# Altium footprint library SOIC14P127_865X600X175L83X42N.PcbLib: 1 footprints
Each footprint in its own frame and in the unit in brackets; x right, y up, seen from the top. Pads: shape width x height; smd on the part's side, far side on the other; paste and mask are expansions set on the pad; w line width, h text height; cw(c..) or ccw(c..) is an arc to the next point about the centre after c.
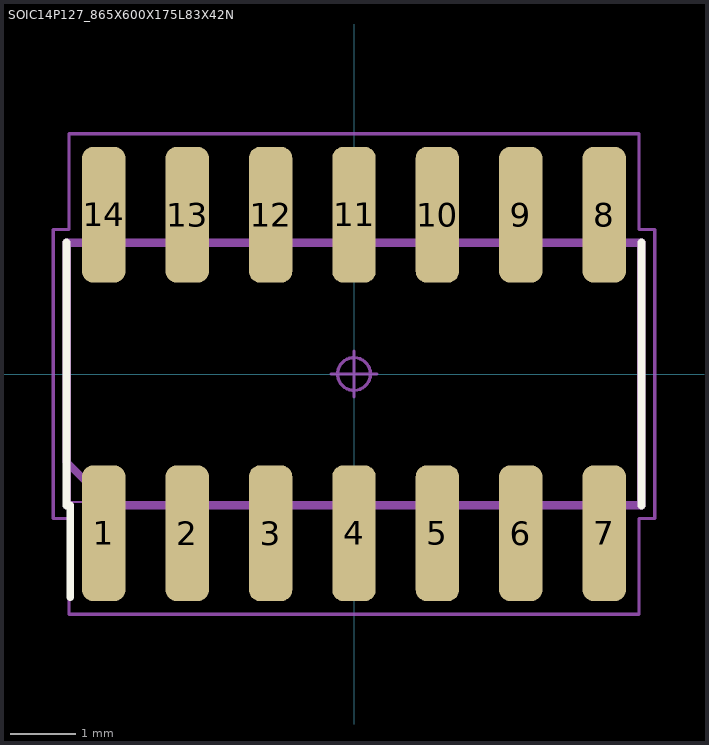
[diagram p0: the footprint, top view; thin cyan lines are the x and y axes]

## SOIC14P127_865X600X175L83X42N [mm] "Small Outline IC (SOIC), 1.27 mm pitch; 14 pin, 8.65 mm L X 3.90 mm W X 1.75 mm H body"
height 1.75
pads (14):
  rrect52% 0.66x2.07 smd: 1(-3.81,-2.425) 2(-2.54,-2.425) 3(-1.27,-2.425) 4(0,-2.425) 5(1.27,-2.425) 6(2.54,-2.425) 7(3.81,-2.425) 8(3.81,2.425) 9(2.54,2.425) 10(1.27,2.425) 11(0,2.425) 12(-1.27,2.425) 13(-2.54,2.425) 14(-3.81,2.425)
Top Overlay:
  lines w0.12: -4.38,-2 -4.38,2 ; -4.32,-3.4 -4.32,-2 ; 4.38,-2 4.38,2
Mechanical 3:
  lines w0.12: -4.38,-1.335 -3.715,-2 4.38,-2 4.38,2 -4.38,2 -4.38,-1.335
Mechanical 5:
  lines w0.025: -4.325,-1.95 -4.325,1.95 4.325,1.95 4.325,-1.95 -4.325,-1.95 ; -4.02,-3 -3.6,-3 -3.6,-2.165 -4.02,-2.165 -4.02,-3 ; -4.02,2.165 -3.6,2.165 -3.6,3 -4.02,3 -4.02,2.165 ; -2.75,-3 -2.33,-3 -2.33,-2.165 -2.75,-2.165 -2.75,-3 ; -2.75,2.165 -2.33,2.165 -2.33,3 -2.75,3 -2.75,2.165 ; -1.48,-3 -1.06,-3 -1.06,-2.165 -1.48,-2.165 -1.48,-3 ; -1.48,2.165 -1.06,2.165 -1.06,3 -1.48,3 -1.48,2.165 ; -0.21,-3 0.21,-3 0.21,-2.165 -0.21,-2.165 -0.21,-3 ; -0.21,2.165 0.21,2.165 0.21,3 -0.21,3 -0.21,2.165 ; 1.06,-3 1.48,-3 1.48,-2.165 1.06,-2.165 1.06,-3 ; 1.06,2.165 1.48,2.165 1.48,3 1.06,3 1.06,2.165 ; 2.33,-3 2.75,-3 2.75,-2.165 2.33,-2.165 2.33,-3 ; 2.33,2.165 2.75,2.165 2.75,3 2.33,3 2.33,2.165 ; 3.6,-3 4.02,-3 4.02,-2.165 3.6,-2.165 3.6,-3 ; 3.6,2.165 4.02,2.165 4.02,3 3.6,3 3.6,2.165
Mechanical 7:
  circle w0.05: c0,0 r0.25
  lines w0.05: -0.35,0 0.35,0 ; 0,-0.35 0,0.35 ; -4.58,-2.2 -4.58,2.2 -4.34,2.2 -4.34,3.66 4.34,3.66 4.34,2.2 4.58,2.2 4.58,-2.2 4.34,-2.2 4.34,-3.66 -4.34,-3.66 -4.34,-2.2 -4.58,-2.2
Mechanical 9:
  text "'.Designator'" at -5.588,-0.381 h1
3D body "SOIC14P127_865X600X175L83X42.STEP": height 1.75, standoff 0, extent -4.325,-3 4.325,3
3D body: height 1, standoff 0, extent -4.58,-3.66 4.58,3.66